# Altium footprint library 2220_V.PcbLib: 1 footprints
Each footprint in its own frame and in the unit in brackets; x right, y up, seen from the top. Pads: shape width x height; smd on the part's side, far side on the other; paste and mask are expansions set on the pad; w line width, h text height; cw(c..) or ccw(c..) is an arc to the next point about the centre after c.
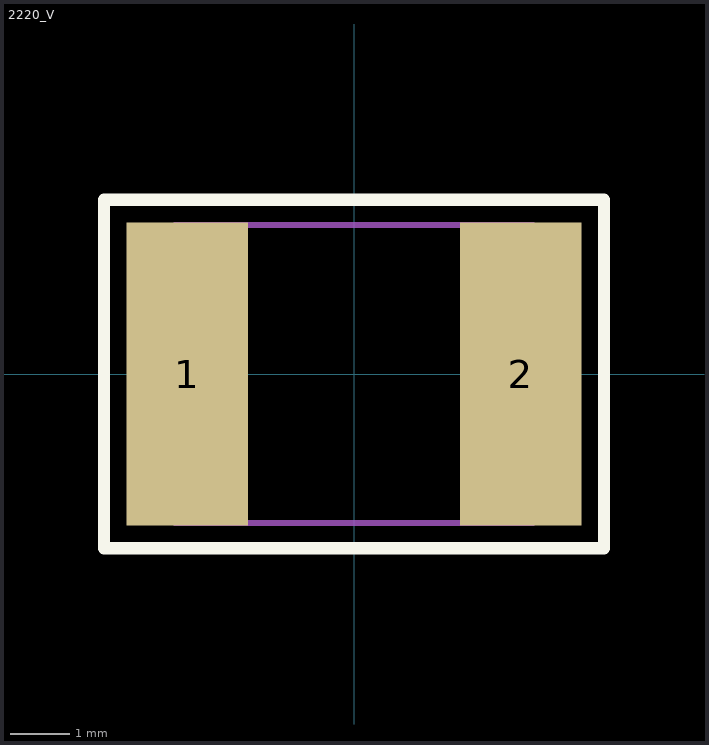
[diagram p0: the footprint, top view; thin cyan lines are the x and y axes]

## 2220_V [mil]
pads (2):
  rect 80x200 smd: 1(-110,0) 2(110,0)
Top Overlay:
  lines w8: -165,-115 -165,115 165,115 165,-115 -165,-115
Mechanical 13:
  lines w3.94: 78.74,-98.43 78.74,98.43 ; -78.74,-98.43 -78.74,98.43 ; -78.74,-98.43 118.11,-98.43 118.11,98.43 -78.74,98.43 ; -78.74,-98.43 -118.11,-98.43 -118.11,98.43 -78.74,98.43
3D body: height 51.18, standoff 0, extent 78.76,-98.41 118.09,98.41
3D body: height 51.18, standoff 0, extent -78.72,-98.41 78.72,98.41
3D body: height 51.18, standoff 0, extent -118.09,-98.41 -78.76,98.41